# Altium footprint library S1G-13-F.PcbLib: 3 footprints
Each footprint in its own frame and in the unit in brackets; x right, y up, seen from the top. Pads: shape width x height; smd on the part's side, far side on the other; paste and mask are expansions set on the pad; w line width, h text height; cw(c..) or ccw(c..) is an arc to the next point about the centre after c.
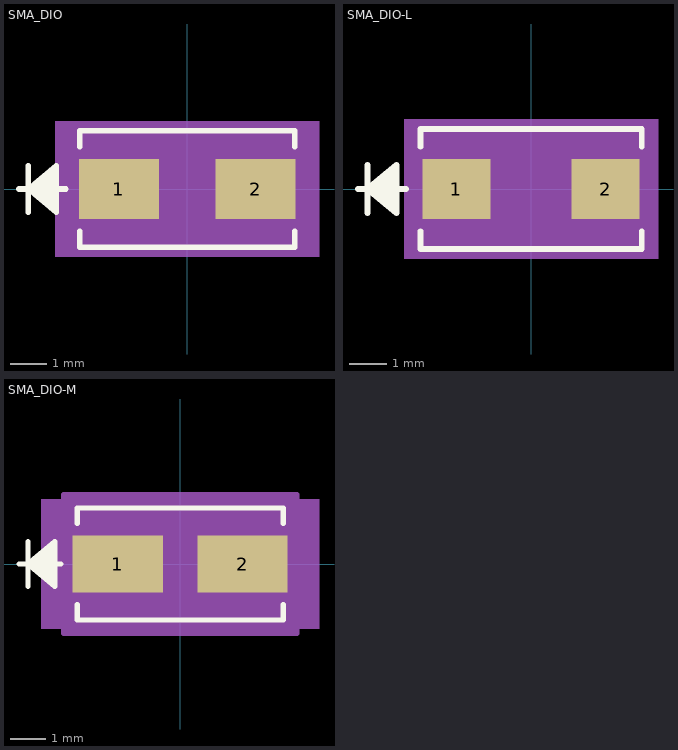
[diagram p0: the footprints below, top view; thin cyan lines are the x and y axes]

## SMA_DIO [mm]
pads (2):
  rect 2.18x1.63 smd paste+0 mask+0: 1(-1.857,0) 2(1.857,0)
Top Overlay:
  lines w0.152: -4.573,0 -3.303,0 ; -4.319,-0.635 -4.319,0.635 ; -3.557,-0.508 -4.319,0 ; -3.557,-0.381 -4.319,0 ; -3.557,-0.254 -4.319,0 ; -3.557,-0.127 -4.319,0 ; -3.557,0.127 -4.319,0 ; -3.557,0.254 -4.319,0 ; -3.557,0.381 -4.319,0 ; -3.557,0.508 -4.319,0 ; -2.922,-1.148 -2.922,-1.587 2.922,-1.587 2.922,-1.148 ; -2.922,1.148 -2.922,1.587 2.922,1.587 2.922,1.148 ; -4.319,0 -3.557,0.635 -3.557,-0.635 -4.319,0
Mechanical 5:
  region: 3.582,-1.841 -3.582,-1.841 -3.582,1.841 3.582,1.841
Mechanical 13:
  lines w0.025: -4.573,0 -3.303,0 ; -4.319,-0.635 -4.319,0.635 ; -3.557,-0.508 -4.319,0 ; -3.557,-0.381 -4.319,0 ; -3.557,-0.254 -4.319,0 ; -3.557,-0.127 -4.319,0 ; -3.557,0.127 -4.319,0 ; -3.557,0.254 -4.319,0 ; -3.557,0.381 -4.319,0 ; -3.557,0.508 -4.319,0 ; -4.319,0 -3.557,0.635 -3.557,-0.635 -4.319,0 ; -2.795,-1.46 2.795,-1.46 2.795,1.46 -2.795,1.46 -2.795,-1.46
Mechanical 15:
  region: -3.049,-1.069 -3.201,-1.069 -3.201,1.069 -3.049,1.069 -3.049,1.714 3.049,1.714 3.049,1.069 3.201,1.069 3.201,-1.069 3.049,-1.069 3.049,-1.714 -3.049,-1.714
  lines w0.152: -3.201,-1.069 -3.201,1.069 -3.049,1.069 -3.049,1.714 3.049,1.714 3.049,1.069 3.201,1.069 3.201,-1.069 3.049,-1.069 3.049,-1.714 -3.049,-1.714 -3.049,-1.069 -3.201,-1.069
3D body "SMA_DIO.step": height 2.35, standoff 0, extent -2.795,-1.46 2.795,1.46

## SMA_DIO-L [mm]
pads (2):
  rect 1.799x1.579 smd paste+0 mask+0: 1(-1.971,0) 2(1.971,0)
Top Overlay:
  lines w0.152: -4.573,0 -3.303,0 ; -4.319,-0.635 -4.319,0.635 ; -3.557,-0.508 -4.319,0 ; -3.557,-0.381 -4.319,0 ; -3.557,-0.254 -4.319,0 ; -3.557,-0.127 -4.319,0 ; -3.557,0.127 -4.319,0 ; -3.557,0.254 -4.319,0 ; -3.557,0.381 -4.319,0 ; -3.557,0.508 -4.319,0 ; -2.922,-1.118 -2.922,-1.587 2.922,-1.587 2.922,-1.118 ; -2.922,1.118 -2.922,1.587 2.922,1.587 2.922,1.118 ; -4.319,0 -3.557,0.635 -3.557,-0.635 -4.319,0
Mechanical 5:
  region: 3.354,-1.841 -3.354,-1.841 -3.354,1.841 3.354,1.841
Mechanical 13:
  lines w0.025: -4.573,0 -3.303,0 ; -4.319,-0.635 -4.319,0.635 ; -3.557,-0.508 -4.319,0 ; -3.557,-0.381 -4.319,0 ; -3.557,-0.254 -4.319,0 ; -3.557,-0.127 -4.319,0 ; -3.557,0.127 -4.319,0 ; -3.557,0.254 -4.319,0 ; -3.557,0.381 -4.319,0 ; -3.557,0.508 -4.319,0 ; -4.319,0 -3.557,0.635 -3.557,-0.635 -4.319,0 ; -2.795,-1.46 2.795,-1.46 2.795,1.46 -2.795,1.46 -2.795,-1.46
Mechanical 15:
  region: -2.897,-0.917 -2.973,-0.917 -2.973,0.917 -2.897,0.917 -2.897,1.562 2.897,1.562 2.897,0.917 2.973,0.917 2.973,-0.917 2.897,-0.917 2.897,-1.562 -2.897,-1.562
  lines w0.152: -2.973,-0.917 -2.973,0.917 -2.897,0.917 -2.897,1.562 2.897,1.562 2.897,0.917 2.973,0.917 2.973,-0.917 2.897,-0.917 2.897,-1.562 -2.897,-1.562 -2.897,-0.917 -2.973,-0.917
3D body "SMA_DIO.step": height 2.35, standoff 0, extent -2.795,-1.46 2.795,1.46

## SMA_DIO-M [mm]
pads (2):
  rect 2.561x1.63 smd paste+0 mask+0: 1(-1.768,0) 2(1.768,0)
Top Overlay:
  lines w0.152: -4.573,0 -3.382,0 ; -4.319,-0.635 -4.319,0.635 ; -3.557,-0.508 -4.319,0 ; -3.557,-0.381 -4.319,0 ; -3.557,-0.254 -4.319,0 ; -3.557,-0.127 -4.319,0 ; -3.557,0.127 -4.319,0 ; -3.557,0.254 -4.319,0 ; -3.557,0.381 -4.319,0 ; -3.557,0.508 -4.319,0 ; -2.922,-1.148 -2.922,-1.587 2.922,-1.587 2.922,-1.148 ; -2.922,1.148 -2.922,1.587 2.922,1.587 2.922,1.148 ; -4.319,0 -3.557,0.635 -3.557,-0.635 -4.319,0
Mechanical 5:
  region: 3.938,-1.841 -3.938,-1.841 -3.938,1.841 3.938,1.841
Mechanical 13:
  lines w0.025: -4.573,0 -3.303,0 ; -4.319,-0.635 -4.319,0.635 ; -3.557,-0.508 -4.319,0 ; -3.557,-0.381 -4.319,0 ; -3.557,-0.254 -4.319,0 ; -3.557,-0.127 -4.319,0 ; -3.557,0.127 -4.319,0 ; -3.557,0.254 -4.319,0 ; -3.557,0.381 -4.319,0 ; -3.557,0.508 -4.319,0 ; -4.319,0 -3.557,0.635 -3.557,-0.635 -4.319,0 ; -2.795,-1.46 2.795,-1.46 2.795,1.46 -2.795,1.46 -2.795,-1.46
Mechanical 15:
  region: -3.303,-1.323 -3.557,-1.323 -3.557,1.323 -3.303,1.323 -3.303,1.968 3.303,1.968 3.303,1.323 3.557,1.323 3.557,-1.323 3.303,-1.323 3.303,-1.968 -3.303,-1.968
  lines w0.152: -3.557,-1.323 -3.557,1.323 -3.303,1.323 -3.303,1.968 3.303,1.968 3.303,1.323 3.557,1.323 3.557,-1.323 3.303,-1.323 3.303,-1.968 -3.303,-1.968 -3.303,-1.323 -3.557,-1.323
3D body "SMA_DIO.step": height 2.35, standoff 0, extent -2.795,-1.46 2.795,1.46